# Altium footprint library Capacitors.PcbLib: 33 footprints (part 1 of 3)
Each footprint in its own frame and in the unit in brackets; x right, y up, seen from the top. Pads: shape width x height; smd on the part's side, far side on the other; paste and mask are expansions set on the pad; w line width, h text height; cw(c..) or ccw(c..) is an arc to the next point about the centre after c.
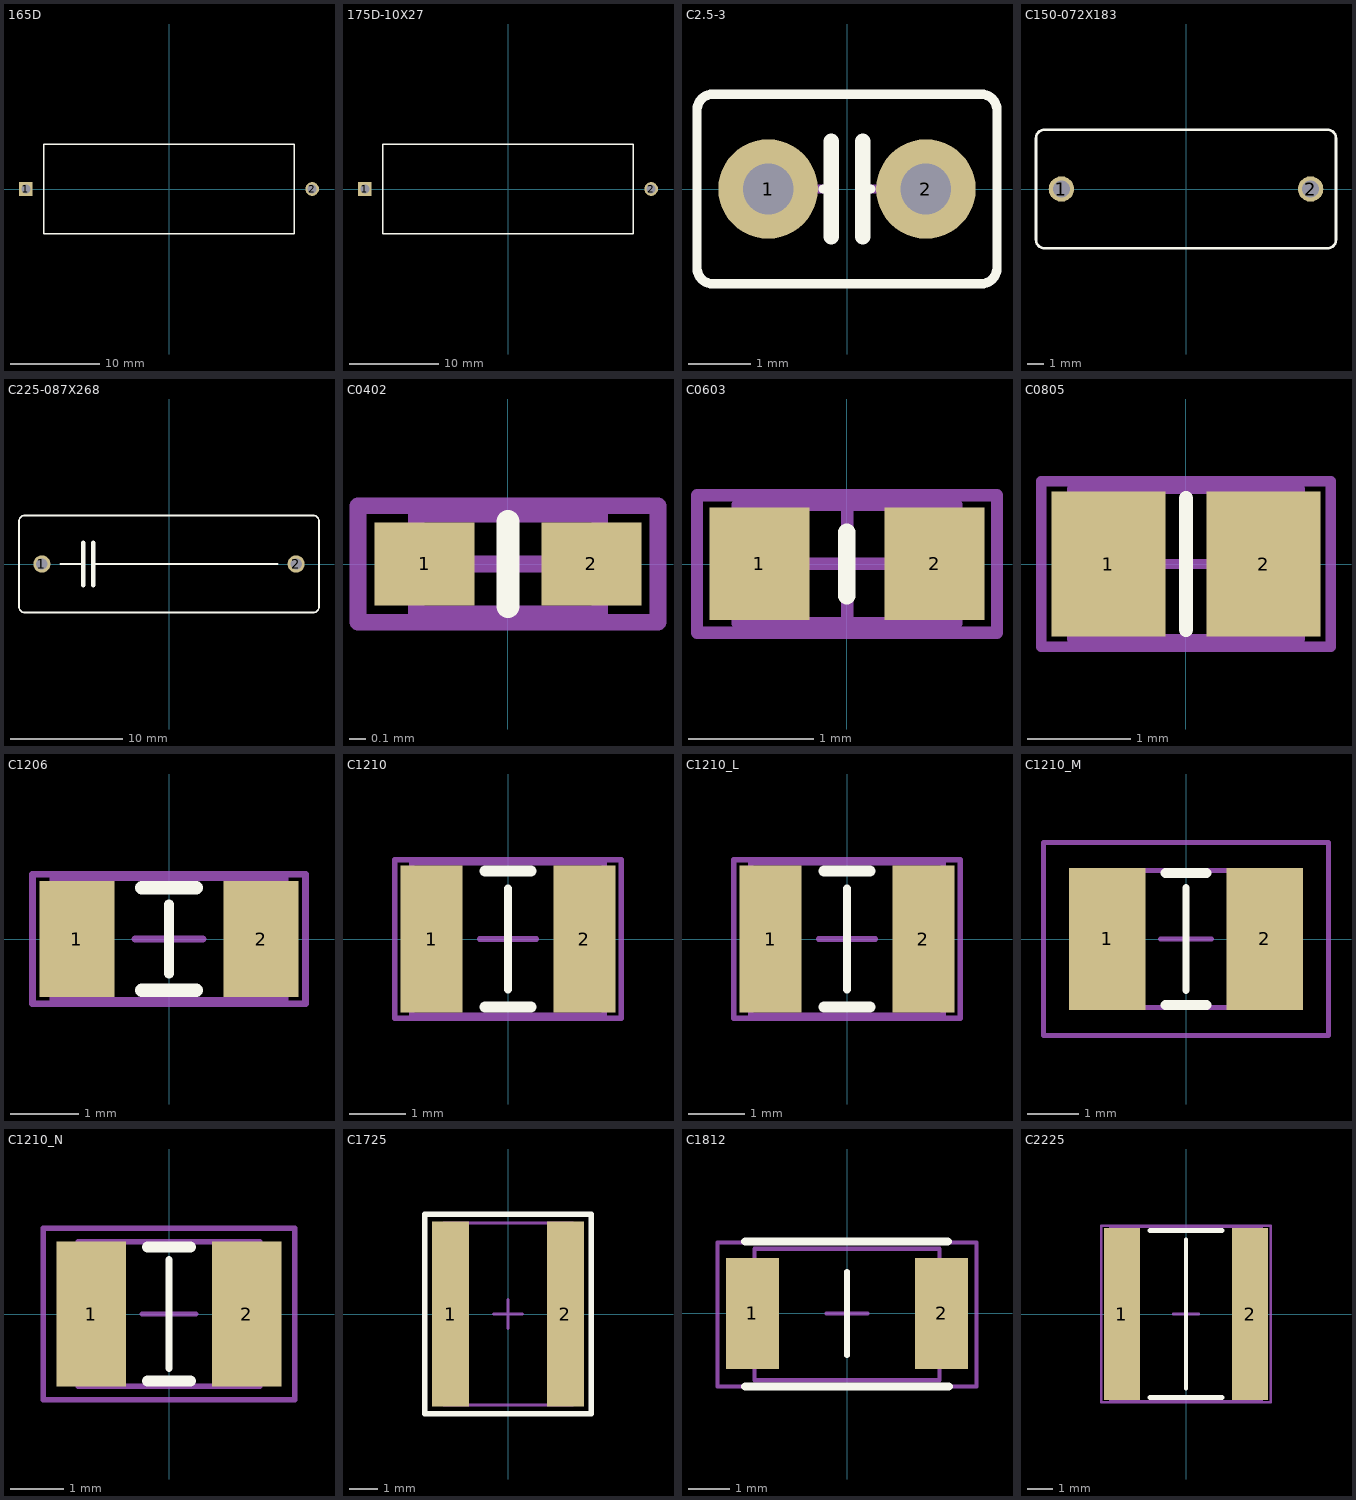
[diagram p0: the footprints below, top view; thin cyan lines are the x and y axes]

## 165D [mil] "135D826X9125K6"
height 472.44
pads (2):
  rect 60x60 hole 40: 1(-629.92,0)
  round 60 hole 40: 2(629.92,0)
Top Overlay:
  lines w6: -551.18,-196.85 -551.18,196.85 551.18,196.85 551.18,-196.85 -551.18,-196.85
3D body "135D.STEP": height 393.7, standoff -30.07, extent -631.73,-196.85 625.82,196.85

## 175D-10X27 [mil] "175D-10X27"
height 472.44
pads (2):
  rect 60x60 hole 40: 1(-629.92,0)
  round 60 hole 40: 2(629.92,0)
Top Overlay:
  lines w6: -551.18,-196.85 551.18,-196.85 551.18,196.85 -551.18,196.85 -551.18,-196.85
3D body "135D.STEP": height 393.7, standoff -30.07, extent -631.73,-196.85 625.82,196.85

## C2.5-3 [mil] "C2.5-3"
pads (2):
  round 63 hole 32: 1(-50,0) 2(50,0)
Top Overlay:
  lines w6: -15,0 -10,0 ; 10,0 15,0 ; -95,-50 ccw(c-85,-50) -85,-60 85,-60 ccw(c85,-50) 95,-50 95,50 ccw(c85,50) 85,60 -85,60 ccw(c-85,50) -95,50 -95,-50
  lines w10: -10,-30 -10,0 -10,30 ; 10,-30 10,0 10,30
Mechanical 16:
  lines w6: -50,0 -15,0 ; 15,0 50,0
3D body: height 393.7, standoff 27.56, extent -93.5,-59.06 93.5,59.06

## C150-072X183 [mil] "C150-072X183"
pads (2):
  round 60 hole 40: 1(-295,0) 2(295,0)
Top Overlay:
  lines w6: -355,-120 ccw(c-335,-120) -335,-140 335,-140 ccw(c335,-120) 355,-120 355,120 ccw(c335,120) 335,140 -335,140 ccw(c-335,120) -355,120 -355,-120
3D body: height 342.52, standoff 19.68, extent -354.33,-137.8 354.33,142.13

## C225-087X268 [mil] "C225-087X268"
height 669.29
pads (2):
  round 60 hole 40: 1(-445,0) 2(445,0)
Top Overlay:
  lines w6: -380,0 -300,0 ; -265,0 380,0 ; -525,-150 ccw(c-505,-150) -505,-170 505,-170 ccw(c505,-150) 525,-150 525,150 ccw(c505,150) 505,170 -505,170 ccw(c-505,150) -525,150 -525,-150
  lines w16: -300,-75 -300,0 -300,75 ; -265,-75 -265,0 -265,75
3D body: height 669.29, standoff 19.68, extent -521.65,-170.28 520.67,170.28

## C0402 [mm] "Chip Capacitor, Body 1.0x0.5mm, IPC High Density"
height 0.5
pads (2):
  rect 0.6x0.5 smd: 1(-0.5,0) 2(0.5,0)
Top Overlay:
  lines w0.14: 0,-0.254 0,0.254
Mechanical 13:
  lines w0.1: -0.55,-0.3 -0.55,0.3 0.55,0.3 0.55,-0.3 -0.55,-0.3
Mechanical 15:
  lines w0.1: -0.3,0 0.3,0 ; 0,-0.3 0,0.3 ; -0.9,-0.35 -0.9,0.35 0.9,0.35 0.9,-0.35 -0.9,-0.35
3D body "WE-CBF_0402_CBF.stp": height 0.5, standoff 0, extent -0.5,-0.25 0.5,0.25

## C0603 [mm] "Chip Capacitor, 0603"
height 1.3
pads (2):
  rect 0.8x0.9 smd: 1(-0.7,0) 2(0.7,0)
Top Overlay:
  lines w0.14: 0,-0.254 0,0.254
Mechanical 13:
  lines w0.1: -0.875,-0.475 -0.875,0.475 0.875,0.475 0.875,-0.475 -0.875,-0.475
Mechanical 15:
  lines w0.1: -0.475,0 0.475,0 ; 0,-0.475 0,0.475 ; -1.2,-0.55 -1.2,0.55 1.2,0.55 1.2,-0.55 -1.2,-0.55
3D body "WE-CBF_0603_CBF.stp": height 0.8, standoff 0, extent -0.8,-0.4 0.8,0.4

## C0805 [mm] "Chip Capacitor, Body 2.0x1.3mm, IPC High Density"
height 1.4
pads (2):
  rect 1.1x1.4 smd: 1(-0.75,0) 2(0.75,0)
Top Overlay:
  lines w0.14: 0,-0.635 0,0.635
Mechanical 13:
  lines w0.1: -1.1,-0.725 1.1,-0.725 1.1,0.725 -1.1,0.725 -1.1,-0.725
Mechanical 15:
  lines w0.1: -0.5,0 0.5,0 ; 0,-0.5 0,0.5 ; -1.4,-0.8 1.4,-0.8 1.4,0.8 -1.4,0.8 -1.4,-0.8
3D body "WE-CBF_0402_CBF.stp": height 0.5, standoff 0, extent -0.5,-0.25 0.5,0.25

## C1206 [mm] "Chip Capacitor, Body 3.2x1.6mm, IPC High Density"
height 1.3
pads (2):
  rect 1.1x1.7 smd: 1(-1.35,0) 2(1.35,0)
Top Overlay:
  lines w0.14: 0,-0.508 0,0.508
  lines w0.2: -0.4,-0.75 0.4,-0.75 ; -0.4,0.75 0.4,0.75
Mechanical 13:
  lines w0.1: -1.7,-0.9 -1.7,0.9 1.7,0.9 1.7,-0.9 -1.7,-0.9
Mechanical 15:
  lines w0.1: -0.5,0 0.5,0 ; 0,-0.5 0,0.5 ; -2,-0.95 -2,0.95 2,0.95 2,-0.95 -2,-0.95
3D body "WE-CBF_1206_CBF.stp": height 1.15, standoff 0.05, extent -1.6,-0.8 1.6,0.8

## C1210 [mm] "Chip Capacitor, Body 3.2x2.5mm, IPC High Density"
height 1.3
pads (2):
  rect 1.1x2.6 smd: 1(-1.35,0) 2(1.35,0)
Top Overlay:
  lines w0.14: 0,-0.889 0,0.889
  lines w0.2: -0.4,-1.2 0.4,-1.2 ; -0.4,1.2 0.4,1.2
Mechanical 13:
  lines w0.1: -1.7,-1.35 -1.7,1.35 1.7,1.35 1.7,-1.35 -1.7,-1.35
Mechanical 15:
  lines w0.1: -0.5,0 0.5,0 ; 0,-0.5 0,0.5 ; -2,-1.4 -2,1.4 2,1.4 2,-1.4 -2,-1.4
3D body "WE-CBF_1210_CBF.stp": height 1.35, standoff 0.05, extent -1.6,-1.25 1.6,1.25

## C1210_L [mm] "Chip Capacitor, Body 3.2x2.5mm, IPC High Density"
height 1.5
pads (2):
  rect 1.1x2.6 smd: 1(-1.35,0) 2(1.35,0)
Top Overlay:
  lines w0.14: 0,-0.889 0,0.889
  lines w0.2: -0.4,-1.2 0.4,-1.2 ; -0.4,1.2 0.4,1.2
Mechanical 13:
  lines w0.1: -1.7,-1.35 1.7,-1.35 1.7,1.35 -1.7,1.35 -1.7,-1.35
Mechanical 15:
  lines w0.1: -0.5,0 0.5,0 ; 0,-0.5 0,0.5 ; -2,-1.4 2,-1.4 2,1.4 -2,1.4 -2,-1.4
3D body: height 1.5, standoff 0, extent -1.7,-1.35 1.7,1.35

## C1210_M [mm] "Chip Capacitor, Body 3.2x2.5mm, IPC Low Density"
height 1.5
pads (2):
  rect 1.5x2.8 smd: 1(-1.55,0) 2(1.55,0)
Top Overlay:
  lines w0.14: 0,-1.016 0,1.016
  lines w0.2: -0.4,-1.3 0.4,-1.3 ; -0.4,1.3 0.4,1.3
Mechanical 13:
  lines w0.1: -1.7,-1.35 -1.7,1.35 1.7,1.35 1.7,-1.35 -1.7,-1.35
Mechanical 15:
  lines w0.1: -0.5,0 0.5,0 ; 0,-0.5 0,0.5 ; -2.8,-1.9 -2.8,1.9 2.8,1.9 2.8,-1.9 -2.8,-1.9
3D body: height 1.5, standoff 0, extent -1.7,-1.35 1.7,1.35

## C1210_N [mm] "Chip Capacitor, Body 3.2x2.5mm, IPC Medium Density"
height 1.5
pads (2):
  rect 1.3x2.7 smd: 1(-1.45,0) 2(1.45,0)
Top Overlay:
  lines w0.14: 0,-1.016 0,1.016
  lines w0.2: -0.4,-1.25 0.4,-1.25 ; -0.4,1.25 0.4,1.25
Mechanical 13:
  lines w0.1: -1.7,-1.35 1.7,-1.35 1.7,1.35 -1.7,1.35 -1.7,-1.35
Mechanical 15:
  lines w0.1: -0.5,0 0.5,0 ; 0,-0.5 0,0.5 ; -2.35,-1.6 2.35,-1.6 2.35,1.6 -2.35,1.6 -2.35,-1.6
3D body: height 1.5, standoff 0, extent -1.7,-1.35 1.7,1.35

## C1725 [mm] "Chip Resistor Body 4.45x6.35mm"
height 1.65
pads (2):
  rect 1.3x6.45 smd: 1(-2,0) 2(2,0)
Top Overlay:
  lines w0.2: -2.9,-3.475 -2.9,3.475 -2.875,3.475 2.875,3.475 2.9,3.475 2.9,-3.475 -2.9,-3.475
Mechanical 13:
  lines w0.1: -2.248,-3.175 -2.248,3.175 2.261,3.175 2.261,-3.175 -2.248,-3.175
Mechanical 15:
  lines w0.1: -0.5,0 0.5,0 ; 0,-0.5 0,0.5 ; -2.896,-3.475 -2.896,3.475 2.883,3.475 2.883,-3.475 -2.896,-3.475
3D body: height 1.5, standoff 0, extent -2.25,-3.188 2.261,3.175

## C1812 [mm] "Chip Capacitor, Body 3.2x4.5mm, IPC Medium Density"
height 1.5
pads (2):
  rect 1.3x2.7 smd: 1(-2.3,0) 2(2.3,0)
Top Overlay:
  lines w0.14: 0,-1.016 0,1.016
  lines w0.2: -2.475,-1.775 2.475,-1.775 ; -2.475,1.75 2.45,1.75
Mechanical 13:
  lines w0.1: -2.25,-1.625 2.25,-1.625 2.25,1.575 -2.25,1.575 -2.25,-1.625
Mechanical 15:
  lines w0.1: -0.5,0 0.5,0 ; 0,-0.5 0,0.5 ; -3.15,-1.775 3.15,-1.775 3.15,1.725 -3.15,1.725 -3.15,-1.775
3D body "WE-CBF_1812_CBF.stp": height 1.55, standoff 0.05, extent -2.25,-1.625 2.25,1.575

## C2225 [mm] "Chip Capacitor, Body 5.7x6.4mm, IPC High Density"
height 1.4
pads (2):
  rect 1.4x6.7 smd: 1(-2.5,0) 2(2.5,0)
Top Overlay:
  lines w0.14: 0,-2.921 0,2.921
  lines w0.2: -1.4,-3.25 1.4,-3.25 ; -1.4,3.25 1.4,3.25
Mechanical 13:
  lines w0.1: -2.95,-3.4 -2.95,3.4 2.95,3.4 2.95,-3.4 -2.95,-3.4
Mechanical 15:
  lines w0.1: -0.5,0 0.5,0 ; 0,-0.5 0,0.5 ; -3.3,-3.45 -3.3,3.45 3.3,3.45 3.3,-3.45 -3.3,-3.45
3D body "WE-MPSB_222012.stp": height 3.3, standoff 0.1, extent -2.795,-2.54 2.795,2.54